# Altium schematic symbol library FM28V202A-TG.SchLib: 1 symbol
Pins are listed as number, name and electrical type; pins without a type are passive.

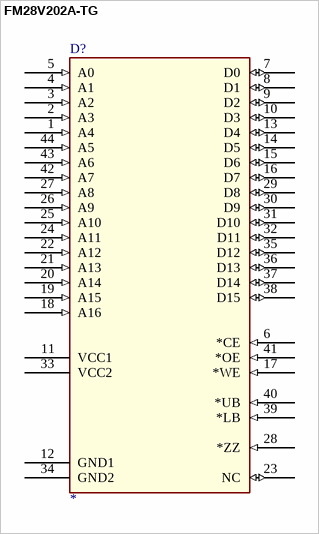
[diagram p0: symbol FM28V202A-TG]

## FM28V202A-TG
designator D?
FRAM (Ferroelectric RAM) Memory IC 2Mb (128K x 16) Parallel  90ns 44-TSOP II; MF: Cypress Semiconductor; MP: FM28V202A-TG; SnapEDA_Link: https://www.snapeda.com/parts/FM28V202A-TG/Cypress+semiconductor/view-part/?ref=snap; Package: TSOP-44 Cypress Semiconductor; Value: *; Check_prices: https://www.snapeda.com/parts/FM28V202A-TG/Cypress+semiconductor/view-part/?ref=eda
footprint SOP80P1183X119-44N
pins: 1 A4 (in), 2 A3 (in), 3 A2 (in), 4 A1 (in), 5 A0 (in), 6 *CE (in), 7 D0 (io), 8 D1 (io), 9 D2 (io), 10 D3 (io), 11 VCC1 (power), 12 GND1 (power), 13 D4 (io), 14 D5 (io), 15 D6 (io), 16 D7 (io), 17 *WE (in), 18 A16 (in), 19 A15 (in), 20 A14 (in), 21 A13 (in), 22 A12 (in), 23 NC (io), 24 A11 (in), 25 A10 (in), 26 A9 (in), 27 A8 (in), 28 *ZZ (in), 29 D8 (io), 30 D9 (io), 31 D10 (io), 32 D11 (io), 33 VCC2 (power), 34 GND2 (power), 35 D12 (io), 36 D13 (io), 37 D14 (io), 38 D15 (io), 39 *LB (in), 40 *UB (in), 41 *OE (in), 42 A7 (in), 43 A6 (in), 44 A5 (in)